# Altium footprint library LED.PcbLib: 7 footprints
Each footprint in its own frame and in the unit in brackets; x right, y up, seen from the top. Pads: shape width x height; smd on the part's side, far side on the other; paste and mask are expansions set on the pad; w line width, h text height; cw(c..) or ccw(c..) is an arc to the next point about the centre after c.
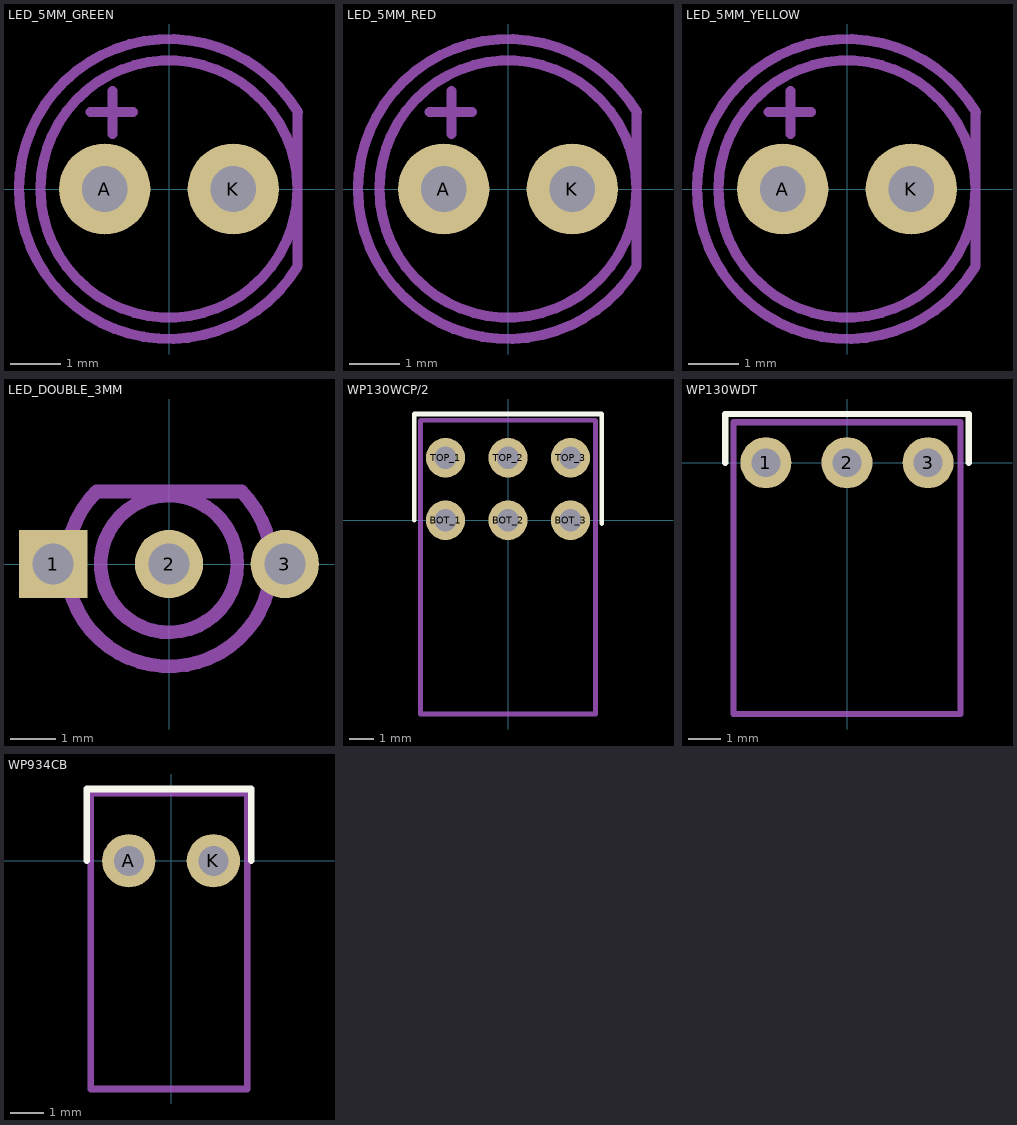
[diagram p0: the footprints below, top view; thin cyan lines are the x and y axes]

## LED_5MM_GREEN [mm]
pads (2):
  round 1.8 hole 0.9: A(-1.27,0) K(1.27,0)
Mechanical 13:
  circle w0.2: c0,0 r2.54
  lines w0.2: -1.549,1.524 -0.711,1.524 ; -1.118,1.092 -1.118,1.93 ; 2.54,-1.525 2.54,1.506 ; 2.542,-1.525 cw(c0,0) 2.55,1.512
  text ".Designator" at -2.108,3.429 h1.5
3D body: height 12.31, standoff -2.49, extent -2.88,-3.01 2.54,3.01

## LED_5MM_RED [mm]
pads (2):
  round 1.8 hole 0.9: A(-1.27,0) K(1.27,0)
Mechanical 13:
  circle w0.2: c0,0 r2.54
  lines w0.2: -1.549,1.524 -0.711,1.524 ; -1.118,1.092 -1.118,1.93 ; 2.54,-1.525 2.54,1.506 ; 2.542,-1.525 cw(c0,0) 2.55,1.512
  text ".Designator" at -2.108,3.429 h1.5
3D body: height 12.31, standoff -2.49, extent -2.964,-2.997 2.456,3.023

## LED_5MM_YELLOW [mm]
pads (2):
  round 1.8 hole 0.9: A(-1.27,0) K(1.27,0)
Mechanical 13:
  circle w0.2: c0,0 r2.54
  lines w0.2: -1.549,1.524 -0.711,1.524 ; -1.118,1.092 -1.118,1.93 ; 2.54,-1.525 2.54,1.506 ; 2.542,-1.525 cw(c0,0) 2.55,1.512
  text ".Designator" at -2.108,3.429 h1.5
3D body: height 12.31, standoff -2.49, extent -2.972,-3.01 2.448,3.01

## LED_DOUBLE_3MM [mm]
pads (3):
  rect 1.5x1.5 hole 0.9: 1(-2.54,0)
  round 1.5 hole 0.9: 2(0,0) 3(2.54,0)
Mechanical 13:
  circle w0.3: c0,0 r1.5
  lines w0.3: -1.584,1.593 ccw(c0,0) 1.589,1.589 -1.58,1.589
  text ".Designator" at -2.159,3.048 h2.5
3D body: height 10, standoff -2.5, extent -2.89,-2.032 2.89,1.468

## WP130WCP/2 [mm]
pads (6):
  round 1.6 hole 0.9: BOT_1(-2.54,0) BOT_2(0,0) BOT_3(2.54,0) TOP_1(-2.54,2.54) TOP_2(0,2.54) TOP_3(2.54,2.54)
Top Overlay:
  lines w0.2: -3.81,0 -3.81,4.318 3.81,4.318 3.81,-0.127
Mechanical 13:
  lines w0.2: -3.556,-7.874 -3.556,4.064 3.556,4.064 3.556,-7.874 -3.556,-7.874
  text ".Designator" at -2.54,4.572 h1.52
3D body: height 9.82, standoff -3.32, extent -3.5,-7.747 3.5,3.973

## WP130WDT [mm]
pads (3):
  round 1.6 hole 0.9: 1(-2.54,0) 2(0,0) 3(2.54,0)
Top Overlay:
  lines w0.2: -3.81,0 -3.81,1.524 3.81,1.524 3.81,0
Mechanical 13:
  lines w0.2: -3.556,-7.874 3.556,-7.874 3.556,1.27 -3.556,1.27 -3.556,-7.874
  text ".Designator" at -2.032,-2.286 h1.52
3D body: height 5.28, standoff -3.18, extent -3.5,-7.874 3.5,1.176

## WP934CB [mm]
pads (2):
  round 1.6 hole 0.9: A(-1.27,0) K(1.27,0)
Top Overlay:
  lines w0.2: -2.54,0 -2.54,2.159 2.413,2.159 2.413,0
Mechanical 13:
  lines w0.2: -2.413,-6.858 -2.413,2.032 2.286,2.032 2.286,-6.858 -2.413,-6.858
  text ".Designator" at -2.159,2.54 h1.52
3D body: height 7.45, standoff -3.35, extent -2.314,-6.788 2.286,1.962